# EAGLE library part RIOTBOARD (library e14_RIoTboard_RevA)
Device for RIoTboard with associated package. Includes pins for J18 (Debug), J13 (exp), and J10 (JTAG). Note the tall components when creating an expansion board. Mechanical dimensions based on the silkscreen gerber provided by the manf. and measurements made on a production board (instead of from a manf. dimensioned drawing). More details can be found at http://www.element14.com/community/community/designcenter/single-board-computers/riotboard
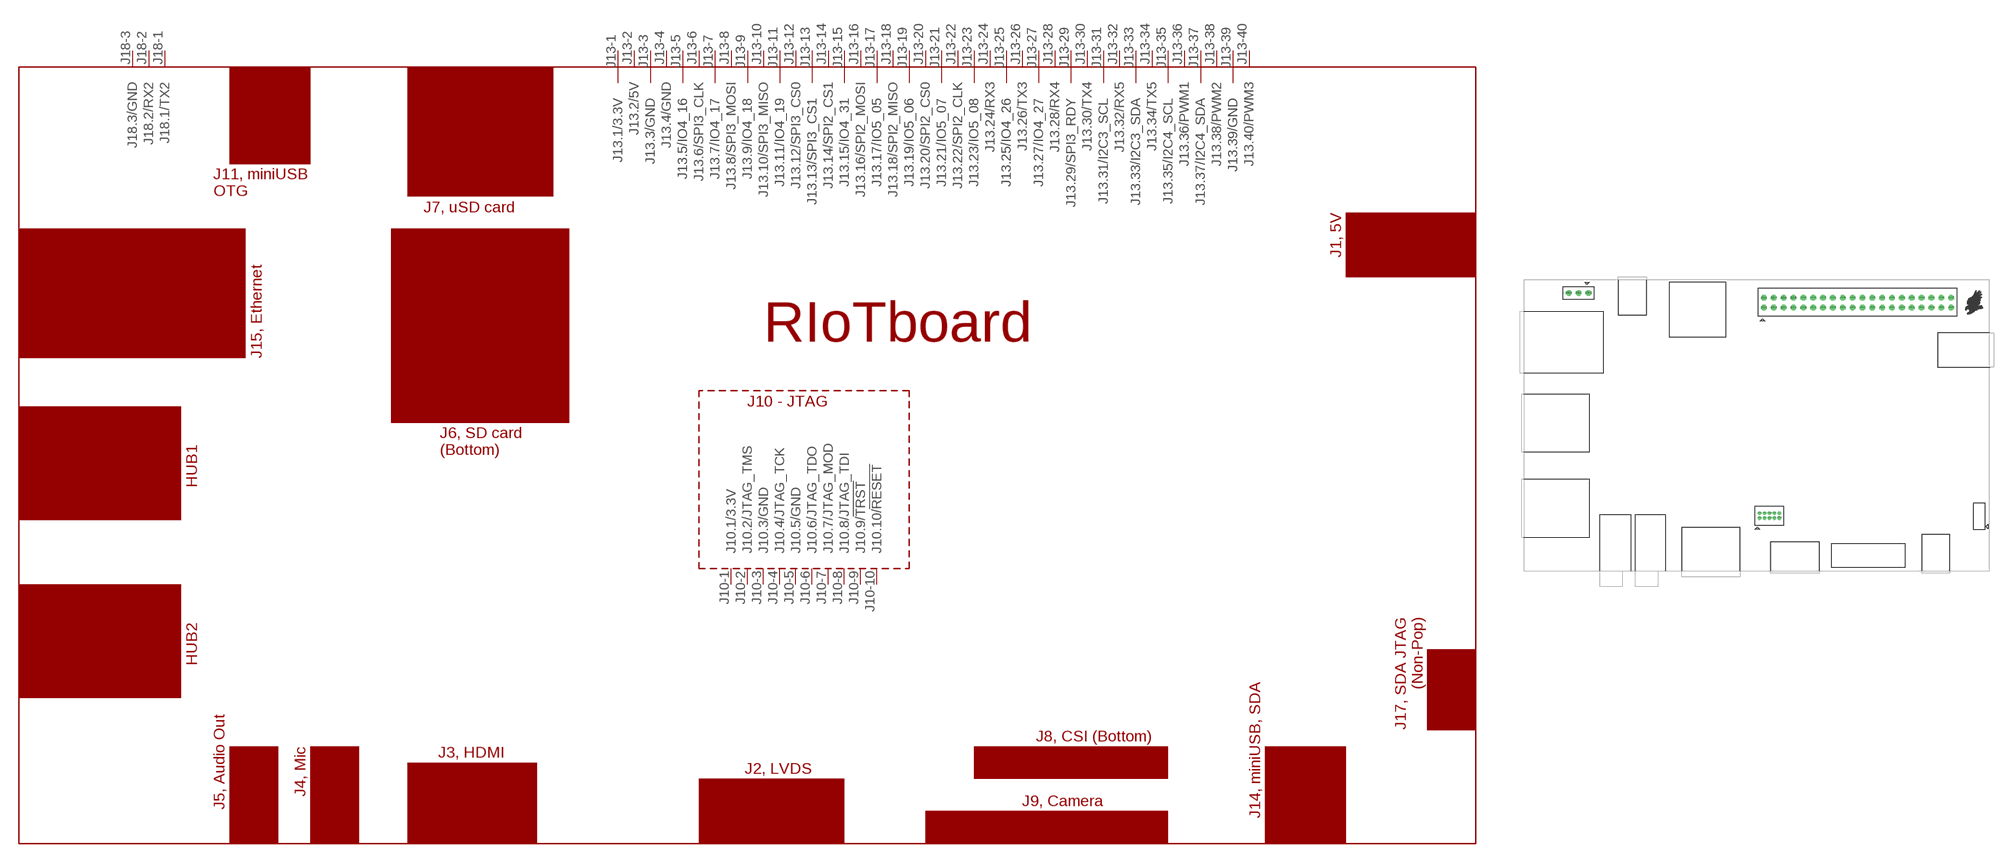
[diagram p0: symbol with the pads of RIOTBOARD; footprint RIOTBOARD]

Designator prefix PCB

## RIOTBOARD  [RIOTBOARD]
J10-1  J10.1/3.3V
J10-2  J10.2/JTAG_TMS
J10-3  J10.3/GND
J10-4  J10.4/JTAG_TCK
J10-5  J10.5/GND
J10-6  J10.6/JTAG_TDO
J10-7  J10.7/JTAG_MOD
J10-8  J10.8/JTAG_TDI
J10-9  J10.9/!TRST
J10-10  J10.10/!RESET
J13-1  J13.1/3.3V
J13-2  J13.2/5V
J13-3  J13.3/GND
J13-4  J13.4/GND
J13-5  J13.5/IO4_16
J13-6  J13.6/SPI3_CLK
J13-7  J13.7/IO4_17
J13-8  J13.8/SPI3_MOSI
J13-9  J13.9/IO4_18
J13-10  J13.10/SPI3_MISO
J13-11  J13.11/IO4_19
J13-12  J13.12/SPI3_CS0
J13-13  J13.13/SPI3_CS1
J13-14  J13.14/SPI2_CS1
J13-15  J13.15/IO4_31
J13-16  J13.16/SPI2_MOSI
J13-17  J13.17/IO5_05
J13-18  J13.18/SPI2_MISO
J13-19  J13.19/IO5_06
J13-20  J13.20/SPI2_CS0
J13-21  J13.21/IO5_07
J13-22  J13.22/SPI2_CLK
J13-23  J13.23/IO5_08
J13-24  J13.24/RX3
J13-25  J13.25/IO4_26
J13-26  J13.26/TX3
J13-27  J13.27/IO4_27
J13-28  J13.28/RX4
J13-29  J13.29/SPI3_RDY
J13-30  J13.30/TX4
J13-31  J13.31/I2C3_SCL
J13-32  J13.32/RX5
J13-33  J13.33/I2C3_SDA
J13-34  J13.34/TX5
J13-35  J13.35/I2C4_SCL
J13-36  J13.36/PWM1
J13-37  J13.37/I2C4_SDA
J13-38  J13.38/PWM2
J13-39  J13.39/GND
J13-40  J13.40/PWM3
J18-1  J18.1/TX2
J18-2  J18.2/RX2
J18-3  J18.3/GND

## Footprint RIOTBOARD (pad centres in mm)
Package for RIoTboard. Mechanical dimensions based on the silkscreen gerber provided by the manufacturer and measurements made on a production board.
drill 0.381 octagon: J10-1 60.76,13.67; J10-2 60.76,14.94; J10-3 62.03,13.67; J10-4 62.03,14.94; J10-5 63.3,13.67; J10-6 63.3,14.94; J10-7 64.57,13.67; J10-8 64.57,14.94; J10-9 65.84,13.67; J10-10 65.84,14.94
drill 0.991 octagon: J13-1 61.86,67.92; J13-2 61.86,70.46; J13-3 64.4,67.92; J13-4 64.4,70.46; J13-5 66.94,67.92; J13-6 66.94,70.46; J13-7 69.48,67.92; J13-8 69.48,70.46; J13-9 72.02,67.92; J13-10 72.02,70.46; J13-11 74.56,67.92; J13-12 74.56,70.46; J13-13 77.1,67.92; J13-14 77.1,70.46; J13-15 79.64,67.92; J13-16 79.64,70.46; J13-17 82.18,67.92; J13-18 82.18,70.46; J13-19 84.72,67.92; J13-20 84.72,70.46; J13-21 87.26,67.92; J13-22 87.26,70.46; J13-23 89.8,67.92; J13-24 89.8,70.46; J13-25 92.34,67.92; J13-26 92.34,70.46; J13-27 94.88,67.92; J13-28 94.88,70.46; J13-29 97.42,67.92; J13-30 97.42,70.46; J13-31 99.96,67.92; J13-32 99.96,70.46; J13-33 102.5,67.92; J13-34 102.5,70.46; J13-35 105.04,67.92; J13-36 105.04,70.46; J13-37 107.58,67.92; J13-38 107.58,70.46; J13-39 110.12,67.92; J13-40 110.12,70.46; J18-1 16.64,71.7; J18-2 14.1,71.7; J18-3 11.56,71.7